# Altium schematic symbol library Relay.SchLib: 1 symbol
Pins are listed as number, name and electrical type; pins without a type are passive.

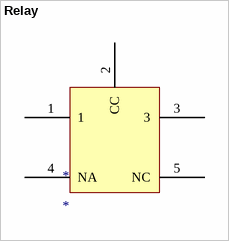
[diagram p0: symbol Relay]

## Relay
designator *
footprint Relay
pins: 1, 2 CC, 3, 4 NA, 5 NC